# Altium integrated library caplib.IntLib: 2 symbols
Pins are listed as number, name and electrical type; pins without a type are passive.

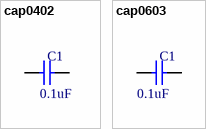
[diagram p0: symbols cap0402 to cap0603]

## cap0402
designator C1  (value not drawn)
footprint cap0402
pins: 1, 2
text: 0.1uF

## cap0603
designator C1  (value not drawn)
footprint cap0603
pins: 1, 2
text: 0.1uF